# Altium footprint library misc.PcbLib: 20 footprints (part 2 of 2)
Each footprint in its own frame and in the unit in brackets; x right, y up, seen from the top. Pads: shape width x height; smd on the part's side, far side on the other; paste and mask are expansions set on the pad; w line width, h text height; cw(c..) or ccw(c..) is an arc to the next point about the centre after c.
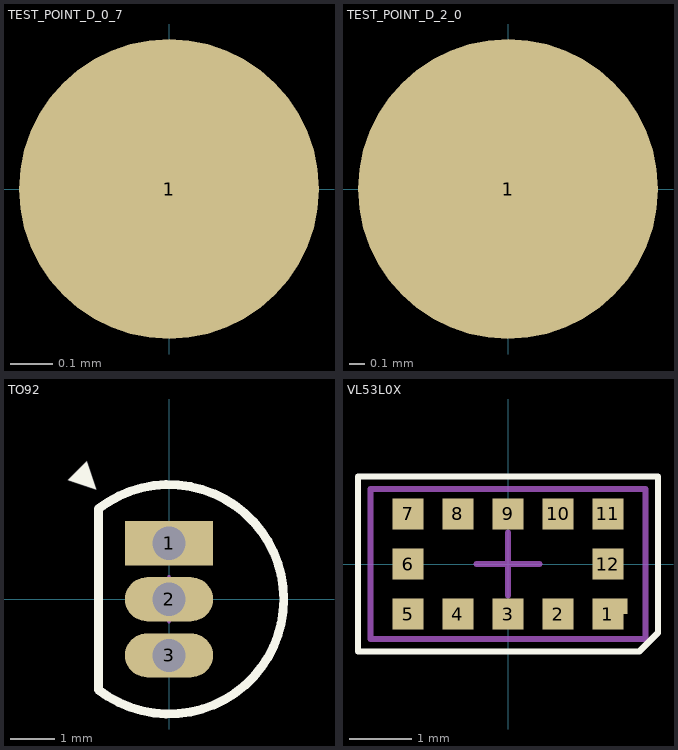
[diagram p1: the footprints below, top view; thin cyan lines are the x and y axes]

## TEST_POINT_D_0_7 [mm]
pads (1):
  round 0.7 smd mask+0.05: 1(0,0)
Top Component Center:
  lines w0.05: -0.15,0 0.15,0 ; 0,-0.15 0,0.15

## TEST_POINT_D_2_0 [mm]
pads (1):
  round 2 smd mask+0.05: 1(0,0)
Top Component Center:
  lines w0.05: -0.15,0 0.15,0 ; 0,-0.15 0,0.15

## TO92 [mm]
pads (3):
  rect 2x1 hole 0.75 mask+0.05: 1(0,1.27)
  oval 2x1 hole 0.75 mask+0.05: 2(0,0) 3(0,-1.27)
Top Overlay:
  lines w0.2: -1.601,-2.049 ccw(c0,0) -1.601,2.049 -1.6,-2.049
  text "▲" at -1.926,3.2 h1
Top Assembly (Mech3):
  lines w0.1: -1.601,-2.049 ccw(c0,0) -1.601,2.049 -1.6,-2.049
Top Courtyard:
  lines w0.1: -1.601,-2.049 ccw(c0,0) -1.601,2.049 -1.6,-2.049
Top Component Center:
  lines w0.1: -0.5,0 0.5,0 ; 0,-0.5 0,0.5
3D body: height 5.2, standoff 0, extent -1.6,-2.611 2.599,2.611

## VL53L0X [mm]
pads (13):
  rect 0.5x0.5 smd mask+0.05: 1(1.6,-0.8) 2(0.8,-0.8) 3(0,-0.8) 4(-0.8,-0.8) 5(-1.6,-0.8) 6(-1.6,0) 7(-1.6,0.8) 8(-0.8,0.8) 9(0,0.8) 10(0.8,0.8) 11(1.6,0.8) 12(1.6,0)
  rrect20% 0.08x0.25 smd mask+0.05: 1(1.875,-0.675)
Top Overlay:
  lines w0.1: -2.4,-1.4 -2.4,1.4 2.4,1.4 2.4,-1.1 2.1,-1.4 -2.4,-1.4
Top Assembly (Mech3):
  lines w0.1: -2.2,-1.2 -2.2,1.2 2.2,1.2 2.2,-1.2 -2.2,-1.2
Top Component Center:
  lines w0.1: -0.5,0 0.5,0 ; 0,-0.5 0,0.5
3D body "vl53l0x.SLDPRT": height 1, standoff -0.03, extent -2.2,-1.2 2.2,1.2